# EAGLE library part SWD (library fabhack)
SWD Miniature connector for ARM programming.
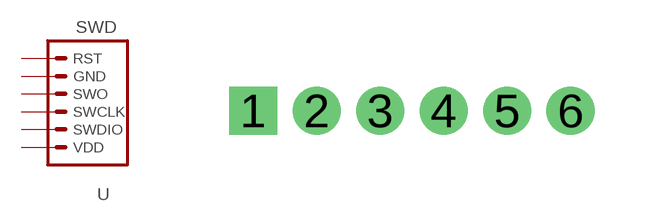
[diagram p7: symbol with the pads of SWD; footprint SWD]

Designator prefix -

## SWD  [SWD]
1  RST  pas
2  GND  pas
3  SWO  pas
4  SWCLK  pas
5  SWDIO  pas
6  VDD  pas

## Footprint SWD (pad centres in mm)
drill 0.7 square: 1 0,0
drill 0.7: 2 1.587,0; 3 3.175,0; 4 4.763,0; 5 6.35,0; 6 7.938,0